# Altium footprint library ResistorCapacitorInductor.PcbLib: 34 footprints (part 1 of 3)
Each footprint in its own frame and in the unit in brackets; x right, y up, seen from the top. Pads: shape width x height; smd on the part's side, far side on the other; paste and mask are expansions set on the pad; w line width, h text height; cw(c..) or ccw(c..) is an arc to the next point about the centre after c.
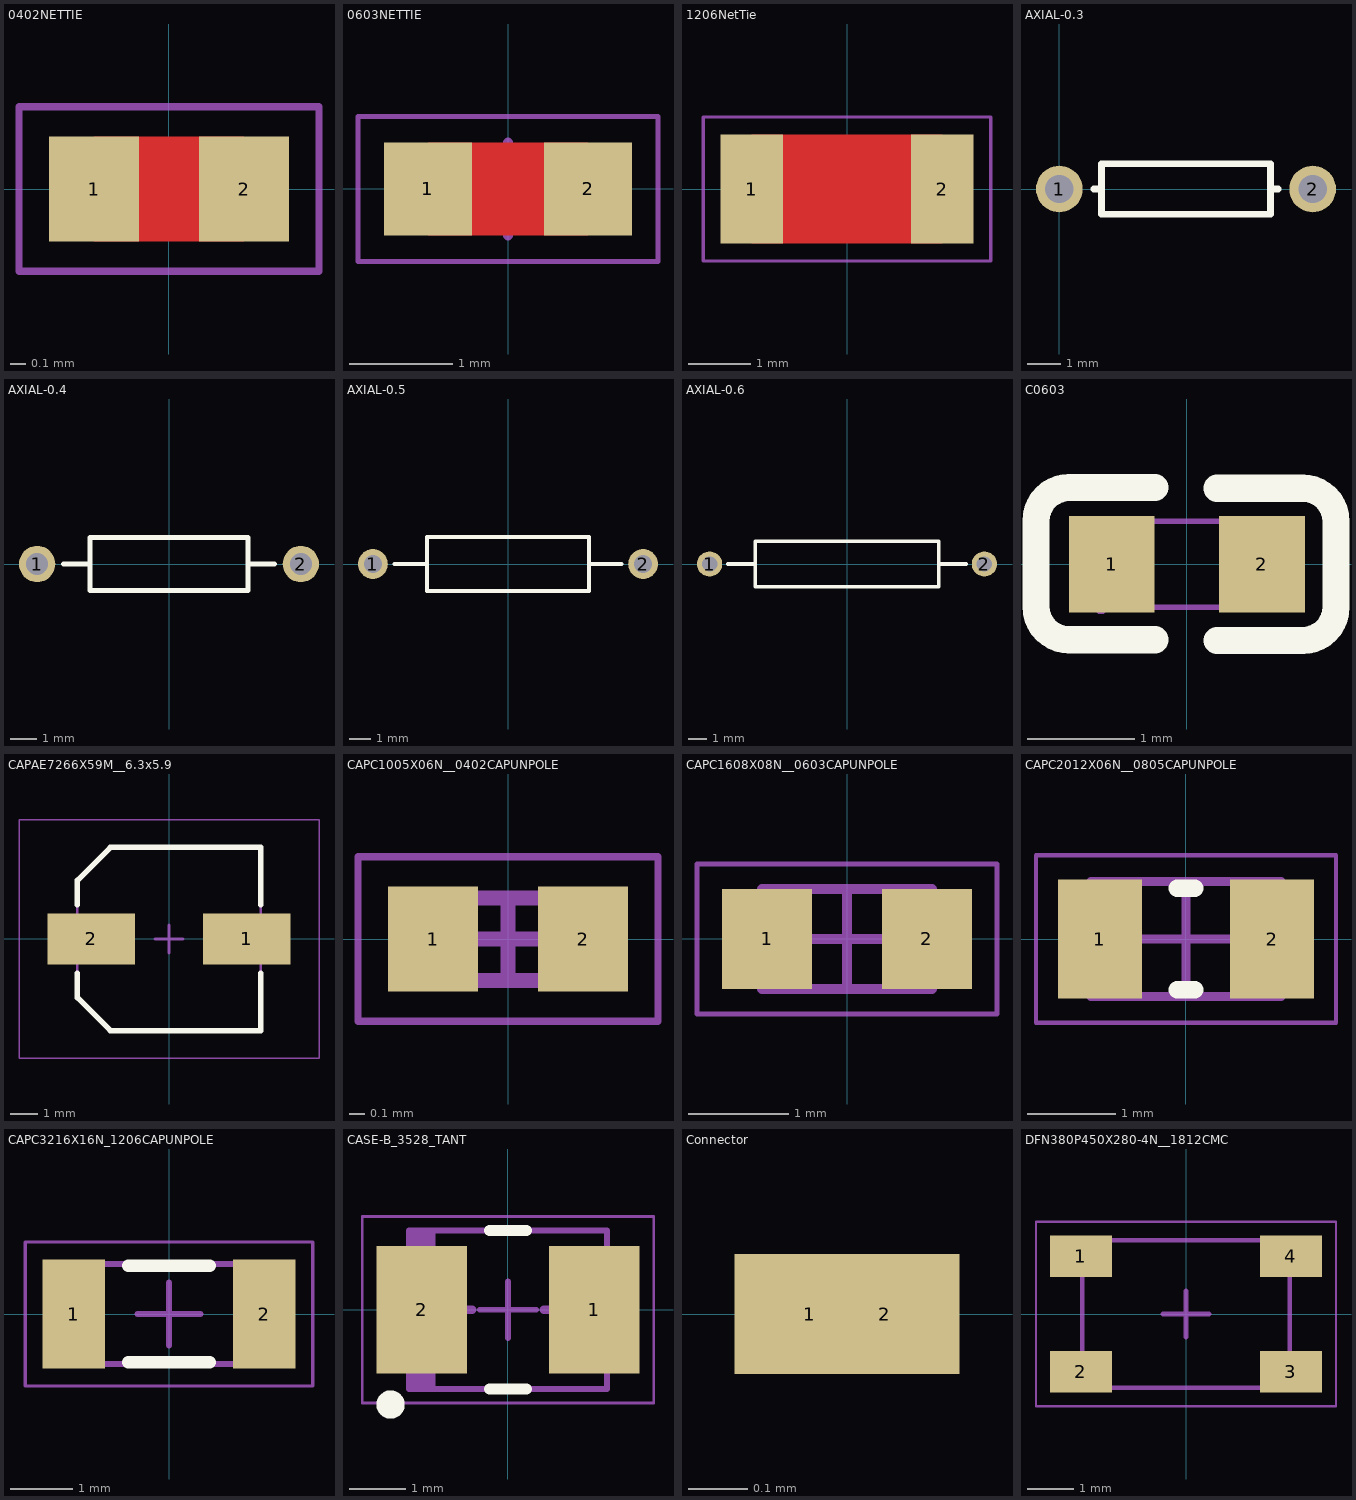
[diagram p0: the footprints below, top view; thin cyan lines are the x and y axes]

## 0402NETTIE [mm]
height 0.45
pads (2):
  rect 0.6x0.7 smd mask+0.102: 1(-0.5,0) 2(0.5,0)
Top Layer:
  rectangle: -0.5,-0.35 0.5,0.35
Mechanical 15:
  lines w0.05: -1,-0.55 0,-0.55 1,-0.55 1,0 1,0.55 0,0.55 -1,0.55 -1,0 -1,-0.55
  lines w0.1: -0.275,0 0.275,0 ; 0,-0.275 0,0.275

## 0603NETTIE [mm] "Chip Resistor, 2-Leads, Body 1.60x0.80mm, IPC Medium Density"
height 0.45
pads (2):
  rect 0.85x0.9 smd mask+0.102: 1(-0.775,0) 2(0.775,0)
Top Layer:
  rectangle: -0.775,-0.45 0.775,0.45
Mechanical 15:
  lines w0.05: -1.45,-0.7 -1.45,0.7 1.45,0.7 1.45,-0.7 -1.45,-0.7
  lines w0.1: -0.45,0 0.45,0 ; 0,-0.45 0,0.45

## 1206NetTie [mm]
pads (2):
  rect 1x1.75 smd mask+0.102: 1(-1.525,0) 2(1.525,0)
Top Layer:
  rectangle: -1.525,-0.875 1.525,0.875
Mechanical 15:
  lines w0.05: -2.3,-1.15 2.3,-1.15 2.3,1.15 -2.3,1.15 -2.3,-1.15
  lines w0.1: -0.5,0 0.5,0 ; 0,-0.5 0,0.5

## AXIAL-0.3 [mm] "Axial Device, Thru-Hole; 2 Leads; 0.3 in Pin Spacing"
height 1.524
pads (2):
  round 1.4 hole 0.85: 1(0,0) 2(7.62,0)
Top Overlay:
  lines w0.2: 1.041,0 1.27,0 ; 6.579,0 6.35,0 ; 6.35,0 6.35,0.762 1.27,0.762 1.27,-0.762 6.35,-0.762 6.35,0

## AXIAL-0.4 [mm] "Axial Device, Thru-Hole; 2 Leads; 0.4 in Pin Spacing"
height 2.032
pads (2):
  round 1.4 hole 0.85: 1(-5.08,0) 2(5.08,0)
Top Overlay:
  lines w0.2: -4.064,0 -3.048,0 ; 3.048,0 4.064,0 ; -3.048,-1.016 -3.048,1.016 3.048,1.016 3.048,-1.016 -3.048,-1.016

## AXIAL-0.5 [mm] "Axial Device, Thru-Hole; 2 Leads; 0.5 in Pin Spacing"
height 2.54
pads (2):
  round 1.4 hole 0.85: 1(-6.35,0) 2(6.35,0)
Top Overlay:
  lines w0.2: -5.334,0 -3.81,0 ; 3.81,0 5.334,0 ; -3.81,-1.27 3.81,-1.27 3.81,1.27 -3.81,1.27 -3.81,-1.27

## AXIAL-0.6 [mm] "Axial Device, Thru-Hole; 2 Leads; 0.6 in Pin Spacing"
height 2.54
pads (2):
  round 1.4 hole 0.85: 1(-7.62,0) 2(7.62,0)
Top Overlay:
  lines w0.2: -6.604,0 -5.08,0 ; 5.08,0 6.604,0 ; -5.08,-1.27 -5.08,1.27 5.08,1.27 5.08,-1.27 -5.08,-1.27

## C0603 [mm]
pads (2):
  rect 0.8x0.9 smd: 1(-0.7,0) 2(0.7,0)
Top Overlay:
  lines w0.254: -0.296,-0.704 -1.096,-0.704 cw(c-1.096,-0.394) -1.406,-0.394 -1.405,0.406 cw(c-1.096,0.406) -1.096,0.715 -0.296,0.715 ; 0.28,-0.71 1.08,-0.71 ccw(c1.08,-0.4) 1.39,-0.4 1.39,0.4 ccw(c1.08,0.4) 1.08,0.71 0.28,0.71
Mechanical 15:
  region: -0.8,-0.4 -0.8,0.4 -0.5,0.4 -0.5,-0.4
  region: 0.8,-0.4 0.8,0.4 0.5,0.4 0.5,-0.4
  region: -0.74,-0.4 -0.74,-0.375 -0.775,-0.34 -0.825,-0.34 -0.86,-0.375 -0.86,-0.4 -0.86,-0.425 -0.825,-0.46 -0.775,-0.46 -0.74,-0.425 -0.74,-0.4
  lines w0.051: -0.8,-0.4 -0.8,0.4 0.8,0.4 0.8,-0.4 -0.8,-0.4

## CAPAE7266X59M__6.3x5.9 [mm] "Aluminum Electrolytic Capacitor, Body 6.60x6.60x5.90mm, IPC Low Density"
height 5.9
pads (2):
  rect 3.15x1.85 smd: 1(2.8,0) 2(-2.8,0)
Top Overlay:
  lines w0.2: -3.3,-1.225 -3.3,-2.113 -2.113,-3.3 3.3,-3.3 3.3,-1.225 ; -3.3,1.225 -3.3,2.113 -2.113,3.3 3.3,3.3 3.3,1.225
Mechanical 13:
  lines w0.1: -3.3,-2.113 -3.3,2.113 -2.113,3.3 3.3,3.3 3.3,-3.3 -2.113,-3.3 -3.3,-2.113
Mechanical 15:
  lines w0.05: -5.4,-4.3 5.4,-4.3 5.4,4.3 -5.4,4.3 -5.4,-4.3
  lines w0.1: -0.5,0 0.5,0 ; 0,-0.5 0,0.5
3D body: height 5.9, standoff 1, extent -3.15,-3.15 3.15,3.15
3D body: height 1.97, standoff 0, extent -3.3,-3.3 3.3,3.3

## CAPC1005X06N__0402CAPUNPOLE [mm] "Chip Capacitor, 2-Leads, Body 1.00x0.50mm, IPC Medium Density"
height 0.55
pads (2):
  rect 0.6x0.7 smd: 1(-0.5,0) 2(0.5,0)
Mechanical 13:
  lines w0.1: -0.525,-0.275 0.525,-0.275 0.525,0.275 -0.525,0.275 -0.525,-0.275
Mechanical 15:
  lines w0.05: -1,-0.55 0,-0.55 1,-0.55 1,0 1,0.55 0,0.55 -1,0.55 -1,0 -1,-0.55
  lines w0.1: -0.275,0 0.275,0 ; 0,-0.275 0,0.275
3D body "Ceremic 0402.step": height 0.5, standoff 0, extent -0.5,-0.25 0.5,0.25

## CAPC1608X08N__0603CAPUNPOLE [mm] "Chip Capacitor, 2-Leads, Body 1.60x0.80mm, IPC Medium Density"
height 0.8
pads (2):
  rect 0.9x1 smd: 1(-0.8,0) 2(0.8,0)
Mechanical 13:
  lines w0.1: -0.85,-0.5 -0.85,0.5 0.85,0.5 0.85,-0.5 -0.85,-0.5
Mechanical 15:
  lines w0.05: -1.5,-0.75 -1.5,0.75 1.5,0.75 1.5,-0.75 -1.5,-0.75
  lines w0.1: -0.5,0 0.5,0 ; 0,-0.5 0,0.5
3D body "Ceramic_Capacitor_0603_h32mil.step": height 0.81, standoff 0.01, extent -0.8,-0.4 0.8,0.4

## CAPC2012X06N__0805CAPUNPOLE [mm] "Chip Capacitor, 2-Leads, Body 2.00x1.23mm, IPC Medium Density"
height 0.55
pads (2):
  rect 0.95x1.35 smd: 1(-0.975,0) 2(0.975,0)
Top Overlay:
  lines w0.2: -0.1,-0.575 0.1,-0.575 ; -0.1,0.575 0.1,0.575
Mechanical 13:
  lines w0.1: -1.075,-0.65 -1.075,0.65 1.075,0.65 1.075,-0.65 -1.075,-0.65
Mechanical 15:
  lines w0.05: -1.7,-0.95 -1.7,0.95 1.7,0.95 1.7,-0.95 -1.7,-0.95
  lines w0.1: -0.5,0 0.5,0 ; 0,-0.5 0,0.5
3D body "Ceramic_Capacitor_0805_h50mil.step": height 1.26, standoff 0.01, extent -1,-0.625 1,0.625

## CAPC3216X16N_1206CAPUNPOLE [mm] "Chip Capacitor, 2-Leads, Body 3.20x1.60mm, IPC Medium Density"
height 1.6
pads (2):
  rect 1x1.75 smd: 1(-1.525,0) 2(1.525,0)
Top Overlay:
  lines w0.2: -0.65,-0.775 0.65,-0.775 ; -0.65,0.775 0.65,0.775
Mechanical 13:
  lines w0.1: -1.6,-0.8 1.6,-0.8 1.6,0.8 -1.6,0.8 -1.6,-0.8
Mechanical 15:
  lines w0.05: -2.3,-1.15 2.3,-1.15 2.3,1.15 -2.3,1.15 -2.3,-1.15
  lines w0.1: -0.5,0 0.5,0 ; 0,-0.5 0,0.5
3D body "C1206_170.step": height 1.7, standoff 0, extent -1.6,-0.8 1.6,0.8

## CASE-B_3528_TANT [mm] "Molded Capacitor, 2-Leads, Body 3.50x2.80mm, IPC Medium Density"
height 1.9
pads (2):
  rect 1.6x2.25 smd: 1(1.525,0) 2(-1.525,0)
Top Overlay:
  circle w0.25: c-2.075,-1.675 r0.125
  lines w0.2: -0.325,-1.4 0.325,-1.4 ; -0.325,1.4 0.325,1.4
Mechanical 13:
  region: -1.279,1.4 -1.75,1.4 -1.75,-1.4 -1.279,-1.4
  lines w0.1: -1.75,-1.4 -1.75,1.4 1.75,1.4 1.75,-1.4 -1.75,-1.4
  lines w0.152: -1.143,0 -0.635,0 ; -0.889,-0.254 -0.889,0.254 ; 0.635,0 1.143,0
Mechanical 15:
  lines w0.05: -2.575,-1.65 -2.575,1.65 2.575,1.65 2.575,-1.65 -2.575,-1.65
  lines w0.1: -0.5,0 0.5,0 ; 0,-0.5 0,0.5
3D body "CASE_B-3528.stp": height 2.11, standoff 0.01, extent -1.85,-1.524 1.85,1.476

## Connector [mil]
pads (2):
  rect 10x8 smd mask+4: 1(-23.62,0) 2(-18.62,0)

## DFN380P450X280-4N__1812CMC [mm] "DFN, 4-Leads, Body 3.20x4.50mm, Pitch 3.80mm, IPC Medium Density"
height 2.8
pads (4):
  rect 1.35x0.9 smd: 1(-2.275,1.25) 2(-2.275,-1.25) 3(2.275,-1.25) 4(2.275,1.25)
Mechanical 13:
  lines w0.1: -2.25,-1.6 2.25,-1.6 2.25,1.6 -2.25,1.6 -2.25,-1.6
Mechanical 15:
  lines w0.05: -3.25,-2 -3.25,2 0,2 3.25,2 3.25,-2 0,-2 -3.25,-2
  lines w0.1: -0.5,0 0.5,0 ; 0,-0.5 0,0.5
3D body "Coilcraft-1812CAN.step": height 3, standoff 0, extent -2.475,-1.59 2.475,1.59